# Altium footprint library Battery Holder.PcbLib: 8 footprints
Each footprint in its own frame and in the unit in brackets; x right, y up, seen from the top. Pads: shape width x height; smd on the part's side, far side on the other; paste and mask are expansions set on the pad; w line width, h text height; cw(c..) or ccw(c..) is an arc to the next point about the centre after c.
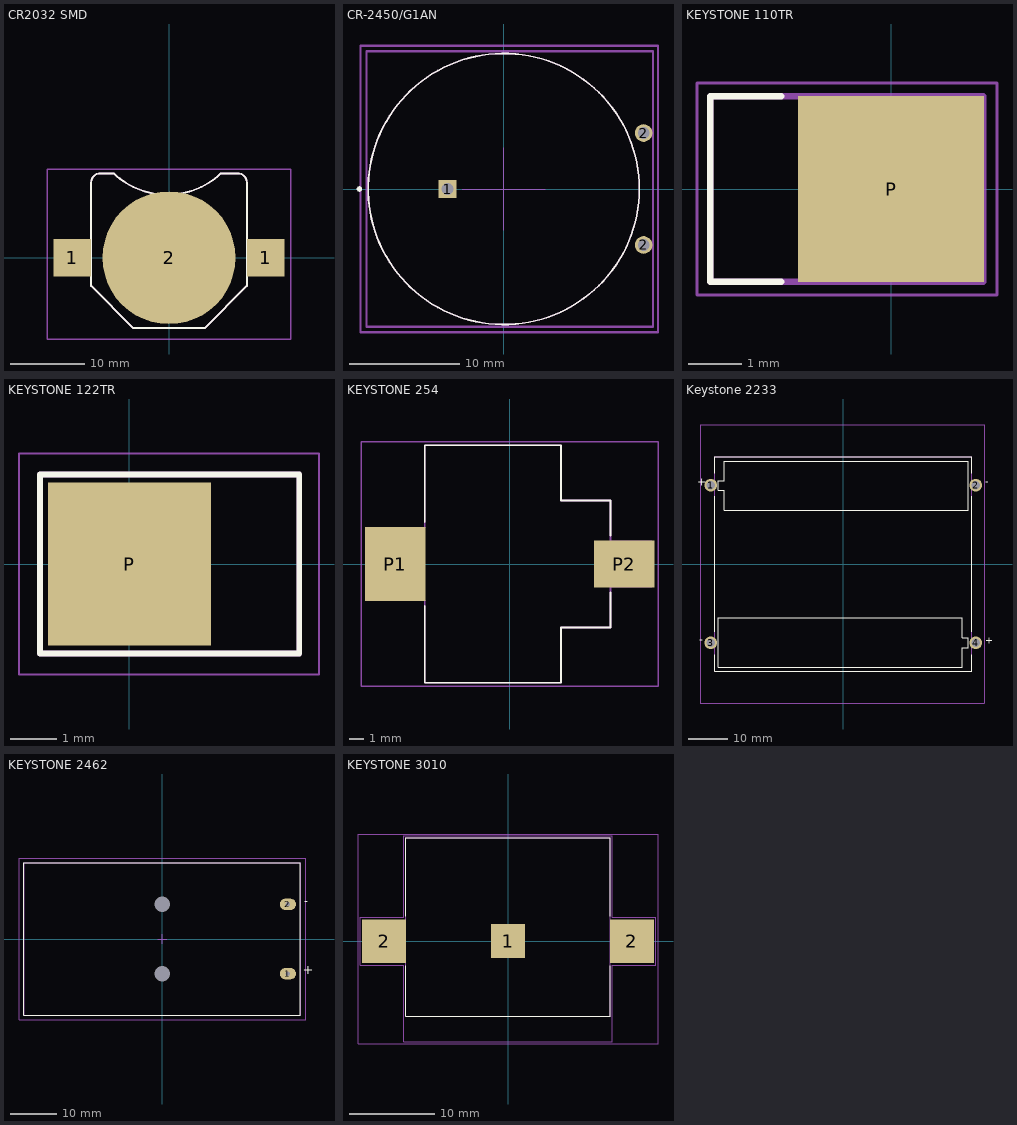
[diagram p0: the footprints below, top view; thin cyan lines are the x and y axes]

## CR2032 SMD [mm]
pads (3):
  rect 5.08x5.08 smd: 1(-13.081,0) 1(13.081,0)
  round 18 smd: 2(0,0)
Top Overlay:
  lines w0.254: 6.985,11.43 9.271,11.43 cw(c9.271,10.16) 10.541,10.16 10.541,-3.81 4.826,-9.525 -4.826,-9.525 -10.541,-3.81 -10.541,10.16 cw(c-9.271,10.16) -9.271,11.43 -7.493,11.43 ccw(c-0.233,19.072) 7.027,11.43
Top Component Outline:
  lines w0.254: 6.985,11.43 9.271,11.43 cw(c9.271,10.16) 10.541,10.16 10.541,-3.81 4.826,-9.525 -4.826,-9.525 -10.541,-3.81 -10.541,10.16 cw(c-9.271,10.16) -9.271,11.43 -7.493,11.43 ccw(c-0.233,19.072) 7.027,11.43
Top Courtyard:
  lines w0.2: -16.5,-11 16.5,-11 16.5,12 -16.5,12 -16.5,-11
3D body "User Library-CR2032-3002.step": height 3.96, standoff 0, extent -15.367,-10.274 15.367,9.779

## CR-2450/G1AN [mm]
pads (3):
  rect 1.6x1.6 hole 1.05 paste-1000 mask+0: 1(-5.1,0)
  round 1.6 hole 1.05 paste-1000 mask+0: 2(12.7,-5.08) 2(12.7,5.08)
Top Overlay:
  circle w0.25: c-13.1,0 r0.125
  circle w0.15: c0,0 r12.3
Top Designator:
  text ".Designator" at 0.55,0 h1
Top Component Center:
  lines w0.1: -3.75,0 3.75,0 ; 0,-3.75 0,3.75
Top Assembly:
  circle w0.15: c0,0 r12.3
Top Component Outline:
  lines w0.2: -12.45,-12.5 -12.45,12.5 13.55,12.5 13.55,-12.5 -12.45,-12.5
Top Courtyard:
  lines w0.2: -13,-13 -13,13 14,13 14,-13 -13,-13
3D body "CR2450N.step": height 4.73, standoff -6.62, extent -12.25,-12.25 13.05,12.25

## KEYSTONE 110TR [mm] "SURFACE MOUNT (SMT) COIN CELL ENCLOSURE CONTACTS"
height 3.3
pads (1):
  rect 3.51x3.51 smd: P(0,0)
Top Overlay:
  lines w0.127: -2.075,-1.755 -3.42,-1.755 -3.42,1.755 -2.075,1.755
Top Component Outline:
  lines w0.127: -3.42,-1.755 1.74,-1.755 1.74,1.755 -3.42,1.755 -3.42,-1.755
Top Courtyard:
  lines w0.05: -3.67,-2.005 2.005,-2.005 2.005,2.005 -3.67,2.005 -3.67,-2.005
3D body "step_temp.STEP": height 3.02, standoff -0.15, extent -3.4,-1.753 1.756,1.753

## KEYSTONE 122TR [mm]
height 5.4
pads (1):
  rect 3.5x3.5 smd: P(0,0)
Top Overlay:
  lines w0.127: -1.925,-1.925 3.65,-1.925 3.65,1.925 -1.925,1.925 -1.925,-1.925
Top Component Outline:
  lines w0.127: -1.925,-1.925 -1.925,1.925 3.65,1.925 3.65,-1.925 -1.925,-1.925
Top Courtyard:
  lines w0.05: -2.375,-2.375 -2.375,2.375 4.075,2.375 4.075,-2.375 -2.375,-2.375
3D body "step_temp.STEP": height 5.38, standoff -0.01, extent -1.725,-1.75 3.548,1.75

## KEYSTONE 254 [mm]
height 16.97
pads (2):
  rect 4.24x5.2 smd: P1(-8.005,0)
  rect 4.24x3.3 smd: P2(8.005,0)
Top Overlay:
  lines w0.127: -5.94,-2.92 -5.94,-8.305 3.59,-8.305 3.59,-4.445 7.06,-4.445 7.06,-1.97 ; -5.94,2.92 -5.94,8.305 3.59,8.305 3.59,4.445 7.06,4.445 7.06,1.97
Top Component Outline:
  lines w0.127: -9.94,-2.54 -9.94,2.54 -5.94,2.54 -5.94,8.305 3.59,8.305 3.59,4.445 7.06,4.445 7.06,1.59 9.94,1.59 9.94,-1.59 7.06,-1.59 7.06,-4.445 3.59,-4.445 3.59,-8.305 -5.94,-8.305 -5.94,-2.54 -9.94,-2.54
Top Courtyard:
  lines w0.1: -10.375,-8.555 10.375,-8.555 10.375,8.555 -10.375,8.555 -10.375,-8.555
3D body "step_temp.STEP": height 17.15, standoff 0, extent -9.938,-8.306 9.944,8.306

## Keystone 2233 [mm]
pads (4):
  round 3.195 hole 2.13: 1(-33.34,19.835) 2(33.34,19.835) 3(-33.34,-19.835) 4(33.34,-19.835)
Top Overlay:
  lines w0.1: -32.32,-22.8 -32.32,-26.99 32.32,-26.99 32.32,-22.8 ; -32.32,-17.1 -32.32,17.1 ; -32.32,22.8 -32.32,26.99 32.32,26.99 32.32,22.8 ; 32.32,-17.1 32.32,17.1
  lines w0.15: -31.5,-25.95 -31.5,-13.55 29.9,-13.55 29.9,-18.55 31.5,-18.55 31.5,-21.05 29.9,-21.05 29.9,-25.95 -31.5,-25.95 ; -31.5,18.5 -29.9,18.5 -29.9,13.5 31.5,13.5 31.5,25.9 -29.9,25.9 -29.9,21 -31.5,21 -31.5,18.5
  text "-" at 35.7,19.3 h3
  text "+" at -36.8,18.9 h3.5
  text "+" at 35.7,-20.7 h3
  text "-" at -36.264,-20.698 h3.5
Top Component Outline:
  lines w0.2: -32.32,-26.99 -32.32,26.99 32.32,26.99 32.32,-26.99 -32.32,-26.99
Top Courtyard:
  lines w0.1: -36,-35 -36,35 35.5,35 35.5,-35 -36,-35
3D body "Keystone 2233.STEP": height 31.3, standoff -4.42, extent -34.599,-34.591 34.626,34.534

## KEYSTONE 2462 [mm]
height 16
pads (4):
  oval 3.5x2.5 hole 1.02 unplated: 1(27.165,-7.495) 2(27.165,7.495)
  rect 0x0 hole 3.3 unplated: M(-0.015,-7.495) M(-0.015,7.495)
Top Overlay:
  lines w0.2: -30,-16.5 29.8,-16.5 29.8,16.5 -30,16.5 -30,-16.5
  text "-" at 30.7,6.8 h3
  text "+" at 30.4,-8.4 h3.5
Top Component Center:
  lines w0.2: -1,0 1,0 ; 0,-1 0,1
Top Component Outline:
  lines w0.2: -30,-16.5 29.8,-16.5 29.8,16.5 -30,16.5 -30,-16.5
Top Courtyard:
  lines w0.2: -31,-17.5 31,-17.5 31,17.5 -31,17.5 -31,-17.5
3D body "Keystone 2462 Twin AA.STEP": height 16, standoff -11.99, extent -29.959,-16.459 29.755,16.459

## KEYSTONE 3010 [mm]
height 4.21
pads (3):
  rect 3.96x3.96 smd paste-3 mask+0.102: 1(0,0)
  rect 5.08x5.08 smd paste+0 mask+0.102: 2(-14.465,0) 2(14.465,0)
Top Overlay:
  lines w0.127: -11.925,-2.9 -11.925,-8.75 11.925,-8.75 11.925,-2.9 ; -11.925,2.9 -11.925,12.05 11.925,12.05 11.925,2.9
Top Component Outline:
  lines w0.05: -17.255,-2.79 -12.175,-2.79 -12.175,-11.75 12.175,-11.75 12.175,-2.79 17.255,-2.79 17.255,2.79 12.175,2.79 12.175,12.3 -12.175,12.3 -12.175,2.79 -17.255,2.79 -17.255,-2.79
  lines w0.127: -11.925,-8.75 -11.925,12.05 11.925,12.05 11.925,-8.75 -11.925,-8.75
Top Courtyard:
  lines w0.127: -17.5,-12 17.5,-12 17.5,12.5 -17.5,12.5 -17.5,-12
3D body "step_temp.STEP": height 6.05, standoff -0.04, extent -17.005,-8.698 17.005,12.108